# EAGLE library part 6120XX235121_612014235121 (library 61201021621_Eagle_WR-BHD_rev19b)
WR-BHD 2.54 mm Male Box Header High Temperature KIND PROPERTIES: Pitch 2.54 mm Gender:Male MATERIAL PROPERTIES: Insulator Material:PA6T Insulator Flammability Rating UL94 V-0 Insulator Color:Black Contact Material :Copper Alloy Contact Plating :Gold Contact Type: Stamped GENERAL INFORMATION: Operating Temperature:-40 °C up to +125 °C Compliance:RoHS Working Voltage: 250 V (AC) Withstanding Voltage:500 V (AC) Contact Resistance: 20 mΩ Insulation Resistance:1000 MΩ PACKAGING PROPERTIES Packaging :Tray <https://katalog.we-online.com/media/images/v2/o32904v209%20Family_WR-BHD_6120xx235121.jpg> Details see: https://katalog.we-online.com/en/em/BHD_2_54_MALE_BOX_HEADER_HIGH_TEMPERATURE_6120XX235121 Updated by Yingchun,Shan 2019-10-30 2019 (C) Würth Elektronik
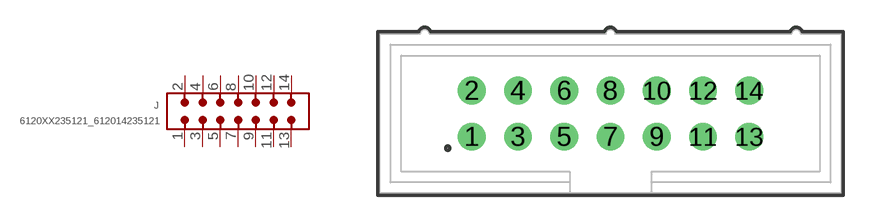
[diagram p1: symbol with the pads of 612014235121; footprint 612014235121]

Designator prefix J

## 6120XX235121_612014235121 (CONTACT-RESISTANCE: 20mOhm; DATASHEET-URL: https://katalog.we-online.com/em/datasheet/612014235121.pdf; GENDER: Male; IR: 3A; L: 25.38mm; MATES: WR-BHD 2.54mm Female IDC Connector with Strain Relief; MOUNT: THT; PACKAGING: Tray; PART-NUMBER: 612014235121; PINS: 14; PITCH: 2.54mm; TOL-R: max.; TYPE: Straight; WORKING-VOLTAGE: 250V(AC))  [612014235121]
1  1  pas
2  2  pas
3  3  pas
4  4  pas
5  5  pas
6  6  pas
7  7  pas
8  8  pas
9  9  pas
10  10  pas
11  11  pas
12  12  pas
13  13  pas
14  14  pas

## Footprint 612014235121 (pad centres in mm)
WR-BHD 2.54 mm Male Box Header High Temperature,14 Pins
drill 1.02: 1 -7.62,-1.27; 2 -7.62,1.27; 3 -5.08,-1.27; 4 -5.08,1.27; 5 -2.54,-1.27; 6 -2.54,1.27; 7 0,-1.27; 8 0,1.27; 9 2.54,-1.27; 10 2.54,1.27; 11 5.08,-1.27; 12 5.08,1.27; 13 7.62,-1.27; 14 7.62,1.27